# EAGLE library part EK32-II (library radiotubes)
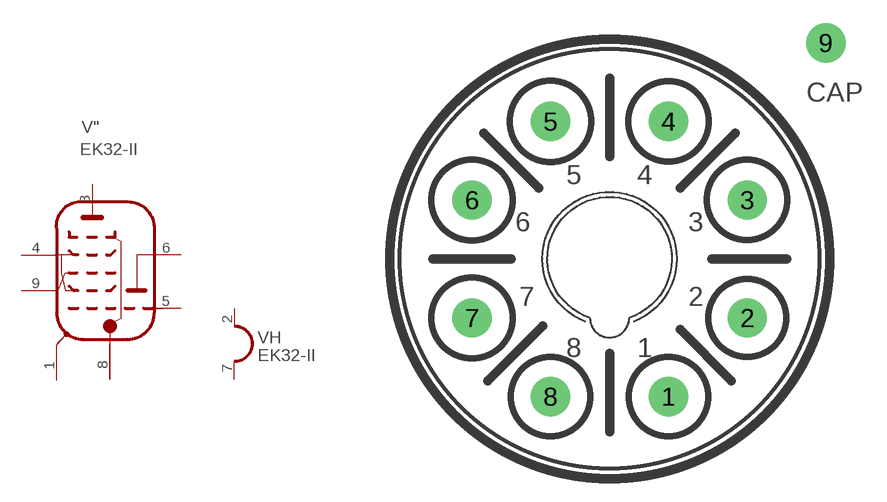
[diagram p129: symbol with the pads of OCTAL-C; footprint OCTAL-C]

Designator prefix V; gates H=HEATER_1 "=OCTODE2 '"=SHIELD2 "'=POINT

## EK32-II  [OCTAL-C]
1  '":S  pas
2  H:H1  pas
3  ":A  pas
4  ":SG  pas
5  ":G1  pas
6  ":AO  pas
7  H:H2  pas
8  ":K  pas
9  ":G-IN  pas

## Footprint OCTAL-C (pad centres in mm)
drill 1.27 pad 2.54: 1 3.81,-8.89; 2 8.89,-3.81; 3 8.89,3.81; 4 3.81,8.89; 5 -3.81,8.89; 6 -8.89,3.81; 7 -8.89,-3.81; 8 -3.81,-8.89; 9 13.97,13.97